# Altium footprint library Molex Footprints.PcbLib: 498 footprints (part 21 of 32)
Each footprint in its own frame and in the unit in brackets; x right, y up, seen from the top. Pads: shape width x height; smd on the part's side, far side on the other; paste and mask are expansions set on the pad; w line width, h text height; cw(c..) or ccw(c..) is an arc to the next point about the centre after c.
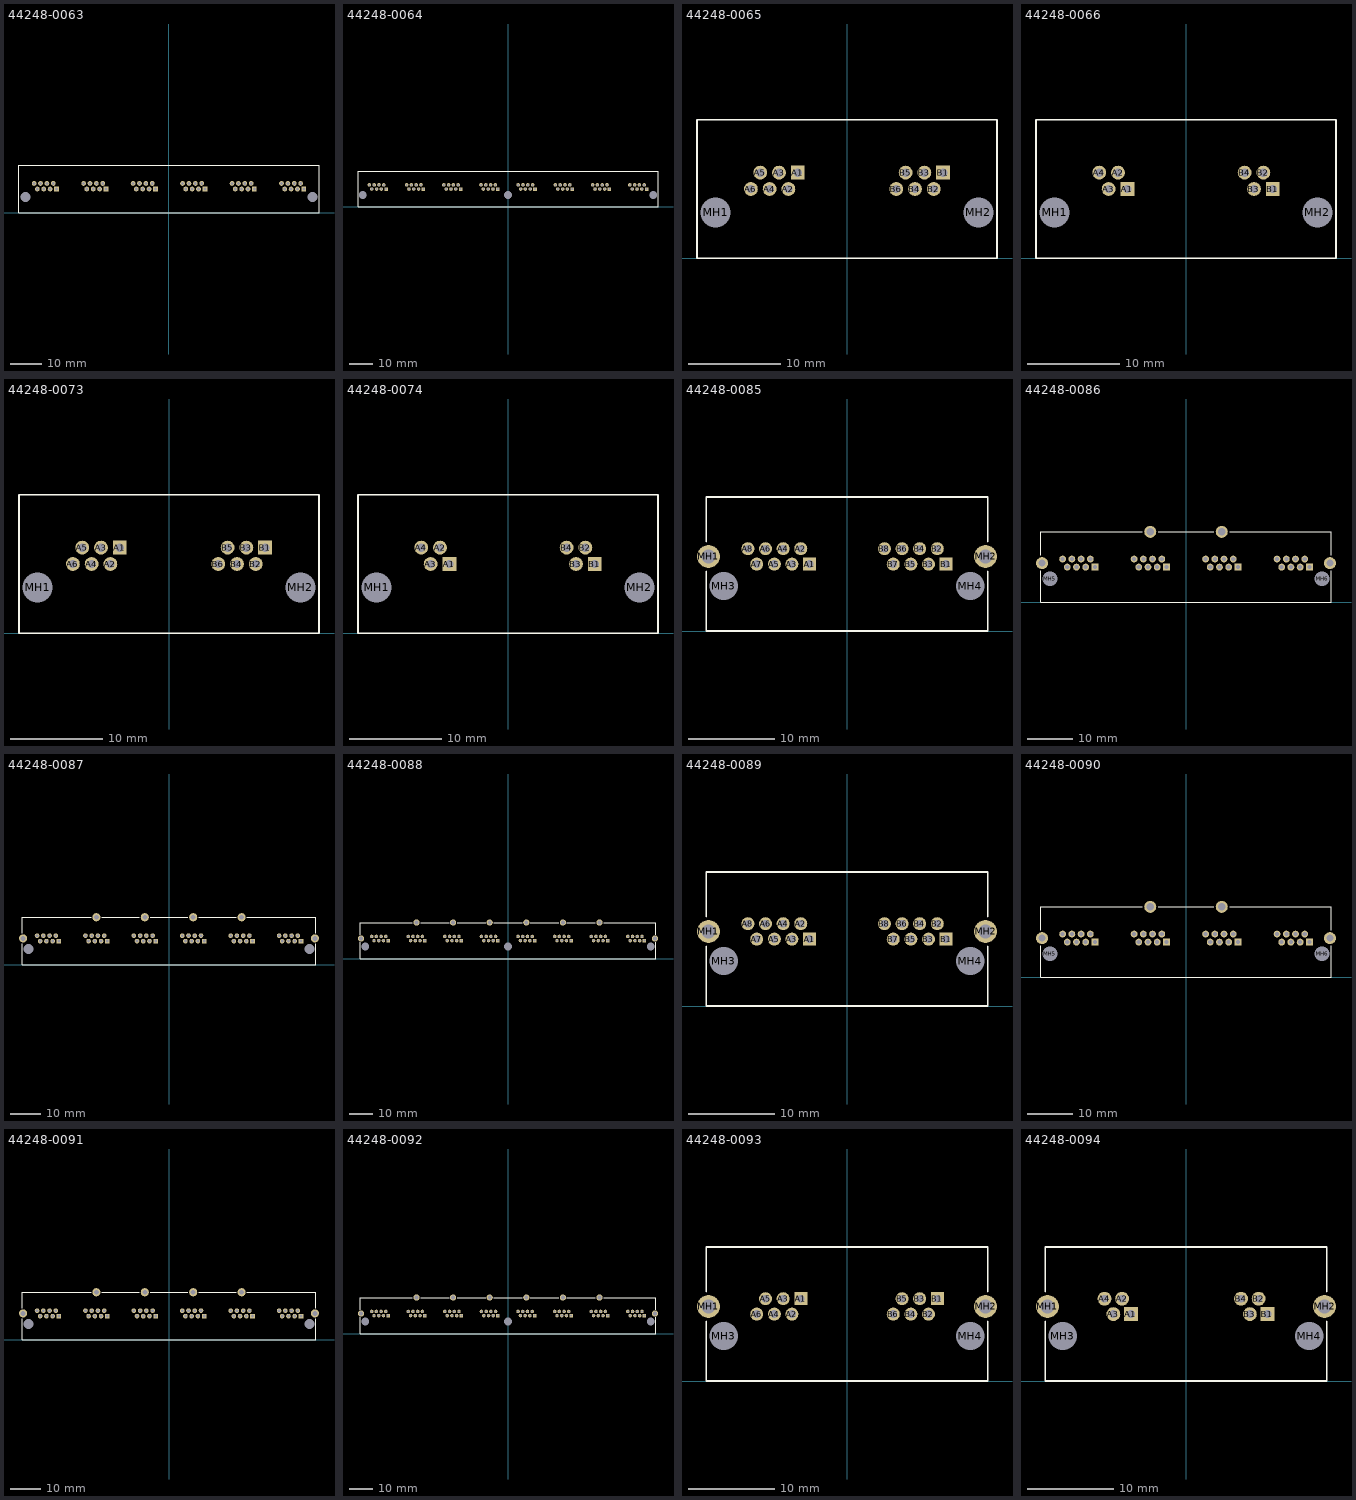
[diagram p20: the footprints below, top view; thin cyan lines are the x and y axes]

## 44248-0063 [mm] "Connector; PCB Jack, Thru-Hole; 6-Port, 8 Positions, 8 Loaded; Unshielded without Lightpipes; Right Angle"
height 13.21
pads (50):
  rect 1.5x1.5 hole 0.9: A1(-35.814,7.49) B1(-20.066,7.49) C1(-4.318,7.49) D1(11.43,7.49) E1(27.178,7.49) F1(42.926,7.49)
  round 1.5 hole 0.9: A2(-36.83,9.268) A3(-37.846,7.49) A4(-38.862,9.268) A5(-39.878,7.49) A6(-40.894,9.268) A7(-41.91,7.49) A8(-42.926,9.268) B2(-21.082,9.268) B3(-22.098,7.49) B4(-23.114,9.268) B5(-24.13,7.49) B6(-25.146,9.268) B7(-26.162,7.49) B8(-27.178,9.268) C2(-5.334,9.268) C3(-6.35,7.49) C4(-7.366,9.268) C5(-8.382,7.49) C6(-9.398,9.268) C7(-10.414,7.49) C8(-11.43,9.268) D2(10.414,9.268) D3(9.398,7.49) D4(8.382,9.268) D5(7.366,7.49) D6(6.35,9.268) D7(5.334,7.49) D8(4.318,9.268) E2(26.162,9.268) E3(25.146,7.49) E4(24.13,9.268) E5(23.114,7.49) E6(22.098,9.268) E7(21.082,7.49) E8(20.066,9.268) F2(41.91,9.268) F3(40.894,7.49) F4(39.878,9.268) F5(38.862,7.49) F6(37.846,9.268) F7(36.83,7.49) F8(35.814,9.268)
  round 2.95 hole 3.25 unplated: MH1(-45.72,4.95) MH2(45.72,4.95)
Top Overlay:
  lines w0.2: -47.745,0 -47.745,14.99 47.745,14.99 47.745,0 -47.745,0

## 44248-0064 [mm] "Connector; PCB Jack, Thru-Hole; 8-Port, 8 Positions, 8 Loaded; Unshielded without Lightpipes; Right Angle"
height 13.21
pads (67):
  rect 1.5x1.5 hole 0.9: A1(-51.562,7.49) B1(-35.814,7.49) C1(-20.066,7.49) D1(-4.318,7.49) E1(11.43,7.49) F1(27.178,7.49) G1(42.926,7.49) H1(58.674,7.49)
  round 1.5 hole 0.9: A2(-52.578,9.268) A3(-53.594,7.49) A4(-54.61,9.268) A5(-55.626,7.49) A6(-56.642,9.268) A7(-57.658,7.49) A8(-58.674,9.268) B2(-36.83,9.268) B3(-37.846,7.49) B4(-38.862,9.268) B5(-39.878,7.49) B6(-40.894,9.268) B7(-41.91,7.49) B8(-42.926,9.268) C2(-21.082,9.268) C3(-22.098,7.49) C4(-23.114,9.268) C5(-24.13,7.49) C6(-25.146,9.268) C7(-26.162,7.49) C8(-27.178,9.268) D2(-5.334,9.268) D3(-6.35,7.49) D4(-7.366,9.268) D5(-8.382,7.49) D6(-9.398,9.268) D7(-10.414,7.49) D8(-11.43,9.268) E2(10.414,9.268) E3(9.398,7.49) E4(8.382,9.268) E5(7.366,7.49) E6(6.35,9.268) E7(5.334,7.49) E8(4.318,9.268) F2(26.162,9.268) F3(25.146,7.49) F4(24.13,9.268) F5(23.114,7.49) F6(22.098,9.268) F7(21.082,7.49) F8(20.066,9.268) G2(41.91,9.268) G3(40.894,7.49) G4(39.878,9.268) G5(38.862,7.49) G6(37.846,9.268) G7(36.83,7.49) G8(35.814,9.268) H2(57.658,9.268) H3(56.642,7.49) H4(55.626,9.268) H5(54.61,7.49) H6(53.594,9.268) H7(52.578,7.49) H8(51.562,9.268)
  round 2.95 hole 3.25 unplated: MH1(-61.468,4.95) MH2(0,4.95) MH3(61.468,4.95)
Top Overlay:
  lines w0.2: 63.493,14.99 63.493,0 -63.493,0 -63.493,14.99 63.493,15

## 44248-0065 [mm] "Connector; PCB Jack, Thru-Hole; 2-Port, 6 Positions, 6 Loaded; Unshielded without Lightpipes; Right Angle"
height 13.21
pads (14):
  rect 1.5x1.5 hole 0.9: A1(-5.334,9.268) B1(10.414,9.268)
  round 1.5 hole 0.9: A2(-6.35,7.49) A3(-7.366,9.268) A4(-8.382,7.49) A5(-9.398,9.268) A6(-10.414,7.49) B2(9.398,7.49) B3(8.382,9.268) B4(7.366,7.49) B5(6.35,9.268) B6(5.334,7.49)
  round 2.95 hole 3.25 unplated: MH1(-14.224,4.95) MH2(14.224,4.95)
Top Overlay:
  lines w0.2: -16.249,0 16.249,0 16.249,14.99 -16.249,14.99 -16.249,0

## 44248-0066 [mm] "Connector; PCB Jack, Thru-Hole; 2-Port, 6 Positions, 4 Loaded; Unshielded without Lightpipes; Right Angle"
height 13.21
pads (10):
  rect 1.5x1.5 hole 0.9: A1(-6.35,7.49) B1(9.398,7.49)
  round 1.5 hole 0.9: A2(-7.366,9.268) A3(-8.382,7.49) A4(-9.398,9.268) B2(8.382,9.268) B3(7.366,7.49) B4(6.35,9.268)
  round 2.95 hole 3.25 unplated: MH1(-14.224,4.95) MH2(14.224,4.95)
Top Overlay:
  lines w0.2: -16.249,0 16.249,0 16.249,14.99 -16.249,14.99 -16.249,0

## 44248-0073 [mm] "Connector; PCB Jack, Thru-Hole; 2-Port, 6 Positions, 6 Loaded; Unshielded without Lightpipes; Right Angle"
height 13.21
pads (14):
  rect 1.5x1.5 hole 0.9: A1(-5.334,9.268) B1(10.414,9.268)
  round 1.5 hole 0.9: A2(-6.35,7.49) A3(-7.366,9.268) A4(-8.382,7.49) A5(-9.398,9.268) A6(-10.414,7.49) B2(9.398,7.49) B3(8.382,9.268) B4(7.366,7.49) B5(6.35,9.268) B6(5.334,7.49)
  round 2.95 hole 3.25 unplated: MH1(-14.224,4.95) MH2(14.224,4.95)
Top Overlay:
  lines w0.2: -16.249,0 16.249,0 16.249,14.99 -16.249,14.99 -16.249,0

## 44248-0074 [mm] "Connector; PCB Jack, Thru-Hole; 2-Port, 6 Positions, 4 Loaded; Unshielded without Lightpipes; Right Angle"
height 13.21
pads (10):
  rect 1.5x1.5 hole 0.9: A1(-6.35,7.49) B1(9.398,7.49)
  round 1.5 hole 0.9: A2(-7.366,9.268) A3(-8.382,7.49) A4(-9.398,9.268) B2(8.382,9.268) B3(7.366,7.49) B4(6.35,9.268)
  round 2.95 hole 3.25 unplated: MH1(-14.224,4.95) MH2(14.224,4.95)
Top Overlay:
  lines w0.2: -16.249,0 16.249,0 16.249,14.99 -16.249,14.99 -16.249,0

## 44248-0085 [mm] "Connector; PCB Jack, Thru-Hole; 2-Port, 8 Positions, 8 Loaded; Shielded without Lightpipes; Right Angle"
height 13.45
pads (20):
  rect 1.5x1.5 hole 0.9: A1(-4.318,7.72) B1(11.43,7.72)
  round 1.5 hole 0.9: A2(-5.334,9.498) A3(-6.35,7.72) A4(-7.366,9.498) A5(-8.382,7.72) A6(-9.398,9.498) A7(-10.414,7.72) A8(-11.43,9.498) B2(10.414,9.498) B3(9.398,7.72) B4(8.382,9.498) B5(7.366,7.72) B6(6.35,9.498) B7(5.334,7.72) B8(4.318,9.498)
  round 2.65 hole 1.6: MH1(-15.977,8.609) MH2(15.977,8.609)
  round 2.95 hole 3.25 unplated: MH3(-14.224,5.18) MH4(14.224,5.18)
Top Overlay:
  lines w0.2: -16.249,6.906 -16.249,0 16.249,0 16.249,6.906 ; -16.249,10.312 -16.249,15.47 16.249,15.47 16.249,10.312

## 44248-0086 [mm] "Connector; PCB Jack, Thru-Hole; 4-Port, 8 Positions, 8 Loaded; Shielded without Lightpipes; Right Angle"
height 13.45
pads (38):
  rect 1.5x1.5 hole 0.9: A1(-20.066,7.72) B1(-4.318,7.72) C1(11.43,7.72) D1(27.178,7.72)
  round 1.5 hole 0.9: A2(-21.082,9.498) A3(-22.098,7.72) A4(-23.114,9.498) A5(-24.13,7.72) A6(-25.146,9.498) A7(-26.162,7.72) A8(-27.178,9.498) B2(-5.334,9.498) B3(-6.35,7.72) B4(-7.366,9.498) B5(-8.382,7.72) B6(-9.398,9.498) B7(-10.414,7.72) B8(-11.43,9.498) C2(10.414,9.498) C3(9.398,7.72) C4(8.382,9.498) C5(7.366,7.72) C6(6.35,9.498) C7(5.334,7.72) C8(4.318,9.498) D2(26.162,9.498) D3(25.146,7.72) D4(24.13,9.498) D5(23.114,7.72) D6(22.098,9.498) D7(21.082,7.72) D8(20.066,9.498)
  round 2.65 hole 1.6: MH1(-31.725,8.609) MH2(-7.874,15.492) MH3(7.874,15.492) MH4(31.725,8.609)
  round 2.95 hole 3.25 unplated: MH5(-29.972,5.18) MH6(29.972,5.18)
Top Overlay:
  lines w0.2: -31.997,6.906 -31.997,0 31.997,0 31.997,6.906 ; -31.997,10.312 -31.997,15.47 -9.599,15.47 ; -6.149,15.47 6.149,15.47 ; 9.599,15.47 31.997,15.47 31.997,10.312

## 44248-0087 [mm] "Connector; PCB Jack, Thru-Hole; 6-Port, 8 Positions, 8 Loaded; Shielded without Lightpipes; Right Angle"
height 13.45
pads (56):
  rect 1.5x1.5 hole 0.9: A1(-35.814,7.72) B1(-20.066,7.72) C1(-4.318,7.72) D1(11.43,7.72) E1(27.178,7.72) F1(42.926,7.72)
  round 1.5 hole 0.9: A2(-36.83,9.498) A3(-37.846,7.72) A4(-38.862,9.498) A5(-39.878,7.72) A6(-40.894,9.498) A7(-41.91,7.72) A8(-42.926,9.498) B2(-21.082,9.498) B3(-22.098,7.72) B4(-23.114,9.498) B5(-24.13,7.72) B6(-25.146,9.498) B7(-26.162,7.72) B8(-27.178,9.498) C2(-5.334,9.498) C3(-6.35,7.72) C4(-7.366,9.498) C5(-8.382,7.72) C6(-9.398,9.498) C7(-10.414,7.72) C8(-11.43,9.498) D2(10.414,9.498) D3(9.398,7.72) D4(8.382,9.498) D5(7.366,7.72) D6(6.35,9.498) D7(5.334,7.72) D8(4.318,9.498) E2(26.162,9.498) E3(25.146,7.72) E4(24.13,9.498) E5(23.114,7.72) E6(22.098,9.498) E7(21.082,7.72) E8(20.066,9.498) F2(41.91,9.498) F3(40.894,7.72) F4(39.878,9.498) F5(38.862,7.72) F6(37.846,9.498) F7(36.83,7.72) F8(35.814,9.498)
  round 2.65 hole 1.6: MH1(-47.473,8.609) MH2(-23.622,15.492) MH3(-7.874,15.492) MH4(7.874,15.492) MH5(23.622,15.492) MH6(47.473,8.609)
  round 2.95 hole 3.25 unplated: MH7(-45.72,5.18) MH8(45.72,5.18)
Top Overlay:
  lines w0.2: -47.745,6.906 -47.745,0 47.745,0 47.745,6.906 ; -47.745,10.312 -47.745,15.47 -25.347,15.47 ; -21.897,15.47 -9.599,15.47 ; -6.149,15.47 6.149,15.47 ; 9.599,15.47 21.897,15.47 ; 25.347,15.47 47.745,15.47 47.745,10.312

## 44248-0088 [mm] "Connector; PCB Jack, Thru-Hole; 8-Port, 8 Positions, 8 Loaded; Shielded without Lightpipes; Right Angle"
height 13.45
pads (75):
  rect 1.5x1.5 hole 0.9: A1(-51.562,7.72) B1(-35.814,7.72) C1(-20.066,7.72) D1(-4.318,7.72) E1(11.43,7.72) F1(27.178,7.72) G1(42.926,7.72) H1(58.674,7.72)
  round 1.5 hole 0.9: A2(-52.578,9.498) A3(-53.594,7.72) A4(-54.61,9.498) A5(-55.626,7.72) A6(-56.642,9.498) A7(-57.658,7.72) A8(-58.674,9.498) B2(-36.83,9.498) B3(-37.846,7.72) B4(-38.862,9.498) B5(-39.878,7.72) B6(-40.894,9.498) B7(-41.91,7.72) B8(-42.926,9.498) C2(-21.082,9.498) C3(-22.098,7.72) C4(-23.114,9.498) C5(-24.13,7.72) C6(-25.146,9.498) C7(-26.162,7.72) C8(-27.178,9.498) D2(-5.334,9.498) D3(-6.35,7.72) D4(-7.366,9.498) D5(-8.382,7.72) D6(-9.398,9.498) D7(-10.414,7.72) D8(-11.43,9.498) E2(10.414,9.498) E3(9.398,7.72) E4(8.382,9.498) E5(7.366,7.72) E6(6.35,9.498) E7(5.334,7.72) E8(4.318,9.498) F2(26.162,9.498) F3(25.146,7.72) F4(24.13,9.498) F5(23.114,7.72) F6(22.098,9.498) F7(21.082,7.72) F8(20.066,9.498) G2(41.91,9.498) G3(40.894,7.72) G4(39.878,9.498) G5(38.862,7.72) G6(37.846,9.498) G7(36.83,7.72) G8(35.814,9.498) H2(57.658,9.498) H3(56.642,7.72) H4(55.626,9.498) H5(54.61,7.72) H6(53.594,9.498) H7(52.578,7.72) H8(51.562,9.498)
  round 2.65 hole 1.6: MH1(-63.221,8.609) MH2(-39.37,15.492) MH3(-23.622,15.492) MH4(-7.874,15.492) MH5(7.874,15.492) MH6(23.622,15.492) MH7(39.37,15.492) MH8(63.221,8.609)
  round 2.95 hole 3.25 unplated: MH9(-61.468,5.18) MH10(0,5.18) MH11(61.468,5.18)
Top Overlay:
  lines w0.2: -63.493,6.906 -63.493,0 63.493,0 63.493,6.906 ; -63.493,10.312 -63.493,15.47 -41.095,15.47 ; -37.645,15.47 -25.347,15.47 ; -21.897,15.47 -9.599,15.47 ; -6.149,15.47 6.149,15.47 ; 9.599,15.47 21.897,15.47 ; 25.347,15.47 37.645,15.47 ; 41.095,15.47 63.493,15.47 63.493,10.312

## 44248-0089 [mm] "Connector; PCB Jack, Thru-Hole; 2-Port, 8 Positions, 8 Loaded; Shielded without Lightpipes; Right Angle"
height 13.45
pads (20):
  rect 1.5x1.5 hole 0.9: A1(-4.318,7.72) B1(11.43,7.72)
  round 1.5 hole 0.9: A2(-5.334,9.498) A3(-6.35,7.72) A4(-7.366,9.498) A5(-8.382,7.72) A6(-9.398,9.498) A7(-10.414,7.72) A8(-11.43,9.498) B2(10.414,9.498) B3(9.398,7.72) B4(8.382,9.498) B5(7.366,7.72) B6(6.35,9.498) B7(5.334,7.72) B8(4.318,9.498)
  round 2.65 hole 1.6: MH1(-15.977,8.609) MH2(15.977,8.609)
  round 2.95 hole 3.25 unplated: MH3(-14.224,5.18) MH4(14.224,5.18)
Top Overlay:
  lines w0.2: -16.249,6.906 -16.249,0 16.249,0 16.249,6.906 ; -16.249,10.312 -16.249,15.47 16.249,15.47 16.249,10.312

## 44248-0090 [mm] "Connector; PCB Jack, Thru-Hole; 4-Port, 8 Positions, 8 Loaded; Shielded without Lightpipes; Right Angle"
height 13.45
pads (38):
  rect 1.5x1.5 hole 0.9: A1(-20.066,7.72) B1(-4.318,7.72) C1(11.43,7.72) D1(27.178,7.72)
  round 1.5 hole 0.9: A2(-21.082,9.498) A3(-22.098,7.72) A4(-23.114,9.498) A5(-24.13,7.72) A6(-25.146,9.498) A7(-26.162,7.72) A8(-27.178,9.498) B2(-5.334,9.498) B3(-6.35,7.72) B4(-7.366,9.498) B5(-8.382,7.72) B6(-9.398,9.498) B7(-10.414,7.72) B8(-11.43,9.498) C2(10.414,9.498) C3(9.398,7.72) C4(8.382,9.498) C5(7.366,7.72) C6(6.35,9.498) C7(5.334,7.72) C8(4.318,9.498) D2(26.162,9.498) D3(25.146,7.72) D4(24.13,9.498) D5(23.114,7.72) D6(22.098,9.498) D7(21.082,7.72) D8(20.066,9.498)
  round 2.65 hole 1.6: MH1(-31.725,8.609) MH2(-7.874,15.492) MH3(7.874,15.492) MH4(31.725,8.609)
  round 2.95 hole 3.25 unplated: MH5(-29.972,5.18) MH6(29.972,5.18)
Top Overlay:
  lines w0.2: -31.997,6.906 -31.997,0 31.997,0 31.997,6.906 ; -31.997,10.312 -31.997,15.47 -9.599,15.47 ; -6.149,15.47 6.149,15.47 ; 9.599,15.47 31.997,15.47 31.997,10.312

## 44248-0091 [mm] "Connector; PCB Jack, Thru-Hole; 6-Port, 8 Positions, 8 Loaded; Shielded without Lightpipes; Right Angle"
height 13.45
pads (56):
  rect 1.5x1.5 hole 0.9: A1(-35.814,7.72) B1(-20.066,7.72) C1(-4.318,7.72) D1(11.43,7.72) E1(27.178,7.72) F1(42.926,7.72)
  round 1.5 hole 0.9: A2(-36.83,9.498) A3(-37.846,7.72) A4(-38.862,9.498) A5(-39.878,7.72) A6(-40.894,9.498) A7(-41.91,7.72) A8(-42.926,9.498) B2(-21.082,9.498) B3(-22.098,7.72) B4(-23.114,9.498) B5(-24.13,7.72) B6(-25.146,9.498) B7(-26.162,7.72) B8(-27.178,9.498) C2(-5.334,9.498) C3(-6.35,7.72) C4(-7.366,9.498) C5(-8.382,7.72) C6(-9.398,9.498) C7(-10.414,7.72) C8(-11.43,9.498) D2(10.414,9.498) D3(9.398,7.72) D4(8.382,9.498) D5(7.366,7.72) D6(6.35,9.498) D7(5.334,7.72) D8(4.318,9.498) E2(26.162,9.498) E3(25.146,7.72) E4(24.13,9.498) E5(23.114,7.72) E6(22.098,9.498) E7(21.082,7.72) E8(20.066,9.498) F2(41.91,9.498) F3(40.894,7.72) F4(39.878,9.498) F5(38.862,7.72) F6(37.846,9.498) F7(36.83,7.72) F8(35.814,9.498)
  round 2.65 hole 1.6: MH1(-47.473,8.609) MH2(-23.622,15.492) MH3(-7.874,15.492) MH4(7.874,15.492) MH5(23.622,15.492) MH6(47.473,8.609)
  round 2.95 hole 3.25 unplated: MH7(-45.72,5.18) MH8(45.72,5.18)
Top Overlay:
  lines w0.2: -47.745,6.906 -47.745,0 47.745,0 47.745,6.906 ; -47.745,10.312 -47.745,15.47 -25.347,15.47 ; -21.897,15.47 -9.599,15.47 ; -6.149,15.47 6.149,15.47 ; 9.599,15.47 21.897,15.47 ; 25.347,15.47 47.745,15.47 47.745,10.312

## 44248-0092 [mm] "Connector; PCB Jack, Thru-Hole; 8-Port, 8 Positions, 8 Loaded; Shielded without Lightpipes; Right Angle"
height 13.45
pads (75):
  rect 1.5x1.5 hole 0.9: A1(-51.562,7.72) B1(-35.814,7.72) C1(-20.066,7.72) D1(-4.318,7.72) E1(11.43,7.72) F1(27.178,7.72) G1(42.926,7.72) H1(58.674,7.72)
  round 1.5 hole 0.9: A2(-52.578,9.498) A3(-53.594,7.72) A4(-54.61,9.498) A5(-55.626,7.72) A6(-56.642,9.498) A7(-57.658,7.72) A8(-58.674,9.498) B2(-36.83,9.498) B3(-37.846,7.72) B4(-38.862,9.498) B5(-39.878,7.72) B6(-40.894,9.498) B7(-41.91,7.72) B8(-42.926,9.498) C2(-21.082,9.498) C3(-22.098,7.72) C4(-23.114,9.498) C5(-24.13,7.72) C6(-25.146,9.498) C7(-26.162,7.72) C8(-27.178,9.498) D2(-5.334,9.498) D3(-6.35,7.72) D4(-7.366,9.498) D5(-8.382,7.72) D6(-9.398,9.498) D7(-10.414,7.72) D8(-11.43,9.498) E2(10.414,9.498) E3(9.398,7.72) E4(8.382,9.498) E5(7.366,7.72) E6(6.35,9.498) E7(5.334,7.72) E8(4.318,9.498) F2(26.162,9.498) F3(25.146,7.72) F4(24.13,9.498) F5(23.114,7.72) F6(22.098,9.498) F7(21.082,7.72) F8(20.066,9.498) G2(41.91,9.498) G3(40.894,7.72) G4(39.878,9.498) G5(38.862,7.72) G6(37.846,9.498) G7(36.83,7.72) G8(35.814,9.498) H2(57.658,9.498) H3(56.642,7.72) H4(55.626,9.498) H5(54.61,7.72) H6(53.594,9.498) H7(52.578,7.72) H8(51.562,9.498)
  round 2.65 hole 1.6: MH1(-63.221,8.609) MH2(-39.37,15.492) MH3(-23.622,15.492) MH4(-7.874,15.492) MH5(7.874,15.492) MH6(23.622,15.492) MH7(39.37,15.492) MH8(63.221,8.609)
  round 2.95 hole 3.25 unplated: MH9(-61.468,5.18) MH10(0,5.18) MH11(61.468,5.18)
Top Overlay:
  lines w0.2: -63.493,6.906 -63.493,0 63.493,0 63.493,6.906 ; -63.493,10.312 -63.493,15.47 -41.095,15.47 ; -37.645,15.47 -25.347,15.47 ; -21.897,15.47 -9.599,15.47 ; -6.149,15.47 6.149,15.47 ; 9.599,15.47 21.897,15.47 ; 25.347,15.47 37.645,15.47 ; 41.095,15.47 63.493,15.47 63.493,10.312

## 44248-0093 [mm] "Connector; PCB Jack, Thru-Hole; 2-Port, 6 Positions, 6 Loaded; Shielded without Lightpipes; Right Angle"
height 13.45
pads (16):
  rect 1.5x1.5 hole 0.9: A1(-5.334,9.498) B1(10.414,9.498)
  round 1.5 hole 0.9: A2(-6.35,7.72) A3(-7.366,9.498) A4(-8.382,7.72) A5(-9.398,9.498) A6(-10.414,7.72) B2(9.398,7.72) B3(8.382,9.498) B4(7.366,7.72) B5(6.35,9.498) B6(5.334,7.72)
  round 2.65 hole 1.6: MH1(-15.977,8.609) MH2(15.977,8.609)
  round 2.95 hole 3.25 unplated: MH3(-14.224,5.18) MH4(14.224,5.18)
Top Overlay:
  lines w0.2: -16.249,6.906 -16.249,0 16.249,0 16.249,6.906 ; -16.249,10.312 -16.249,15.47 16.249,15.47 16.249,10.312

## 44248-0094 [mm] "Connector; PCB Jack, Thru-Hole; 2-Port, 6 Positions, 4 Loaded; Shielded without Lightpipes; Right Angle"
height 13.45
pads (12):
  rect 1.6x1.6 hole 0.9: A1(-6.35,7.72) B1(9.398,7.72)
  round 1.6 hole 0.9: A2(-7.366,9.498) A3(-8.382,7.72) A4(-9.398,9.498) B2(8.382,9.498) B3(7.366,7.72) B4(6.35,9.498)
  round 2.65 hole 1.6: MH1(-15.977,8.609) MH2(15.977,8.609)
  round 2.95 hole 3.25 unplated: MH3(-14.224,5.18) MH4(14.224,5.18)
Top Overlay:
  lines w0.2: -16.249,6.906 -16.249,0 16.249,0 16.249,6.906 ; -16.249,10.312 -16.249,15.47 16.249,15.47 16.249,10.312